# EAGLE library part XHRA-2HPA-TQ64-C (library ICs)
XMOS xCore Audio USB to I2S, max 384kHz/32bit
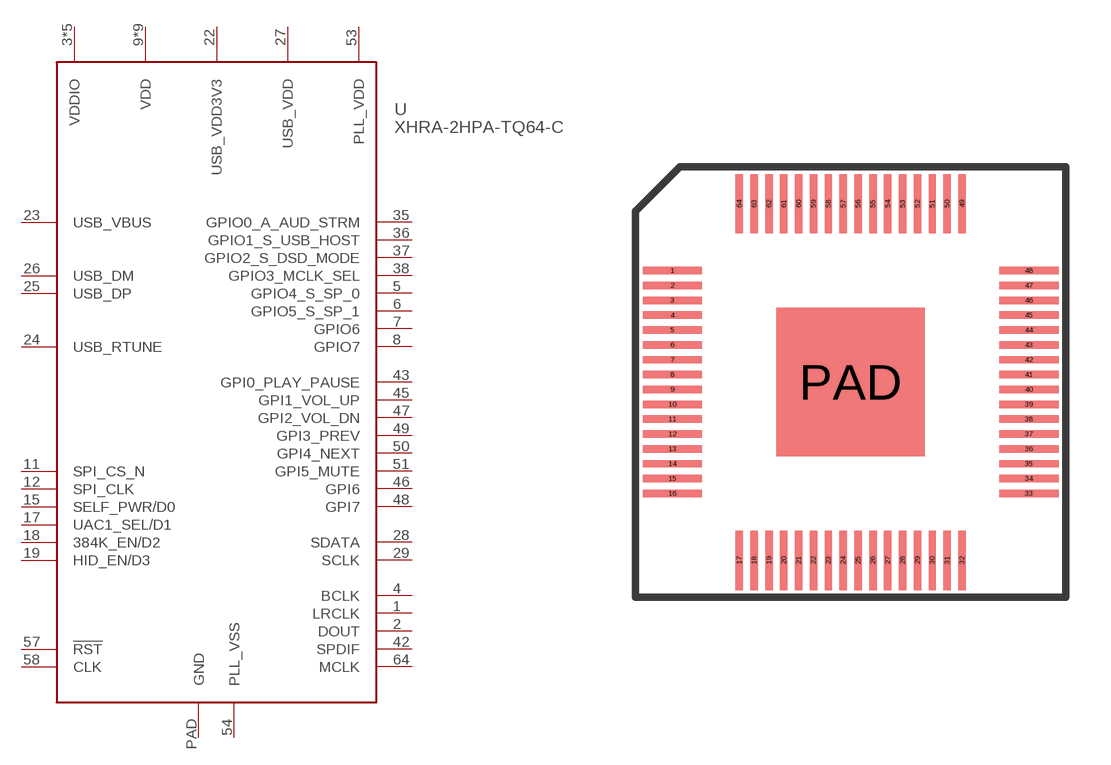
[diagram p94: symbol with the pads of QFP64_PAD; footprint QFP64_PAD]

Designator prefix U

## XHRA-2HPA-TQ64-C (DIGIKEY: 880-1114-ND; PRICE_PER: 9.05; VALUE: XMOS xCORE)  [QFP64_PAD]
1  LRCLK
2  DOUT
3  VDDIO
4  BCLK
5  GPIO4_S_SP_0
6  GPIO5_S_SP_1
7  GPIO6
8  GPIO7
9  VDD
10  VDD
11  SPI_CS_N
12  SPI_CLK
13  VDDIO
15  SELF_PWR/D0
17  UAC1_SEL/D1
18  384K_EN/D2
19  HID_EN/D3
20  VDD
22  USB_VDD3V3
23  USB_VBUS
24  USB_RTUNE
25  USB_DP
26  USB_DM
27  USB_VDD
28  SDATA
29  SCLK
31  VDD
34  VDDIO
35  GPIO0_A_AUD_STRM
36  GPIO1_S_USB_HOST
37  GPIO2_S_DSD_MODE
38  GPIO3_MCLK_SEL
39  VDD
40  VDD
41  VDD
42  SPDIF
43  GPI0_PLAY_PAUSE
44  VDDIO
45  GPI1_VOL_UP
46  GPI6
47  GPI2_VOL_DN
48  GPI7
49  GPI3_PREV
50  GPI4_NEXT
51  GPI5_MUTE
52  VDD
53  PLL_VDD
54  PLL_VSS
55  VDDIO
56  VDD
57  !RST
58  CLK
64  MCLK
PAD  GND

## Footprint QFP64_PAD (pad centres in mm)
smd 2 x 0.25: 1 -6,3.75; 2 -6,3.25; 3 -6,2.75; 4 -6,2.25; 5 -6,1.75; 6 -6,1.25; 7 -6,0.75; 8 -6,0.25; 9 -6,-0.25; 10 -6,-0.75; 11 -6,-1.25; 12 -6,-1.75; 13 -6,-2.25; 14 -6,-2.75; 15 -6,-3.25; 16 -6,-3.75; 33 6,-3.75; 34 6,-3.25; 35 6,-2.75; 36 6,-2.25; 37 6,-1.75; 38 6,-1.25; 39 6,-0.75; 40 6,-0.25; 41 6,0.25; 42 6,0.75; 43 6,1.25; 44 6,1.75; 45 6,2.25; 46 6,2.75; 47 6,3.25; 48 6,3.75
smd 0.25 x 2: 17 -3.75,-6; 18 -3.25,-6; 19 -2.75,-6; 20 -2.25,-6; 21 -1.75,-6; 22 -1.25,-6; 23 -0.75,-6; 24 -0.25,-6; 25 0.25,-6; 26 0.75,-6; 27 1.25,-6; 28 1.75,-6; 29 2.25,-6; 30 2.75,-6; 31 3.25,-6; 32 3.75,-6; 49 3.75,6; 50 3.25,6; 51 2.75,6; 52 2.25,6; 53 1.75,6; 54 1.25,6; 55 0.75,6; 56 0.25,6; 57 -0.25,6; 58 -0.75,6; 59 -1.25,6; 60 -1.75,6; 61 -2.25,6; 62 -2.75,6; 63 -3.25,6; 64 -3.75,6
smd 5 x 5: PAD 0,0